# Altium footprint library IND-SMD_L16.5-W15.5.PcbLib: 1 footprints
Each footprint in its own frame and in the unit in brackets; x right, y up, seen from the top. Pads: shape width x height; smd on the part's side, far side on the other; paste and mask are expansions set on the pad; w line width, h text height; cw(c..) or ccw(c..) is an arc to the next point about the centre after c.
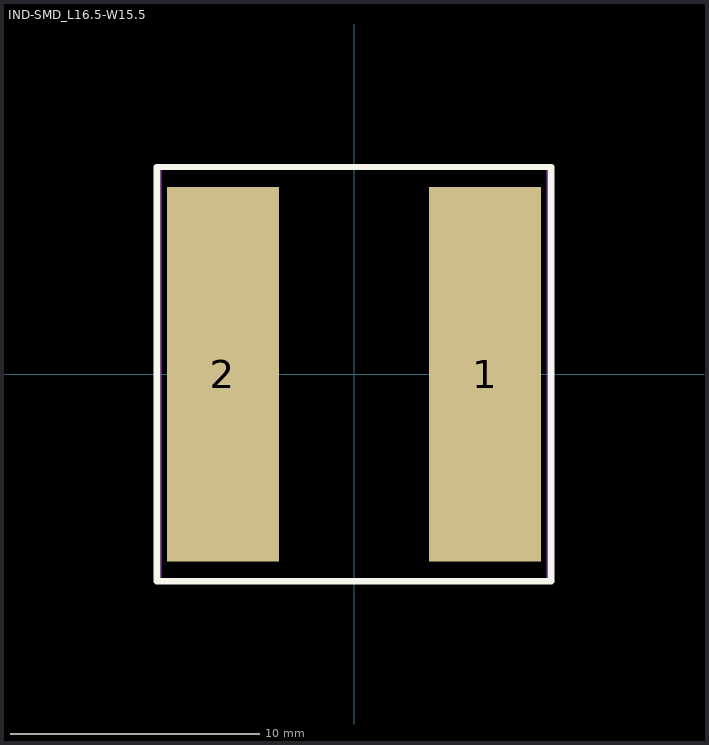
[diagram p0: the footprint, top view; thin cyan lines are the x and y axes]

## IND-SMD_L16.5-W15.5 [mm]
pads (2):
  rect 4.5x15 smd: 1(5.25,0) 2(-5.25,0)
Top Overlay:
  lines w0.254: -7.9,-8.3 7.9,-8.3 7.9,8.3 -7.7,8.3 -7.9,8.3 -7.9,-8.3
Mechanical 15:
  region: 7.81,8.25 7.809,8.274 7.774,8.308 7.726,8.308 7.691,8.274 7.69,8.25 7.691,8.226 7.726,8.192 7.774,8.192 7.809,8.226 7.81,8.25
  region: 3.6,-6.6 3.6,6.6 6.8,6.6 6.8,-6.6
  region: -6.8,-6.6 -6.8,6.6 -3.6,6.6 -3.6,-6.6
  lines w0.051: -7.75,-8.25 7.75,-8.25 7.75,8.25 -7.75,8.25 -7.75,-8.25